# Altium footprint library HTSSOP-32.PcbLib: 1 footprints
Each footprint in its own frame and in the unit in brackets; x right, y up, seen from the top. Pads: shape width x height; smd on the part's side, far side on the other; paste and mask are expansions set on the pad; w line width, h text height; cw(c..) or ccw(c..) is an arc to the next point about the centre after c.
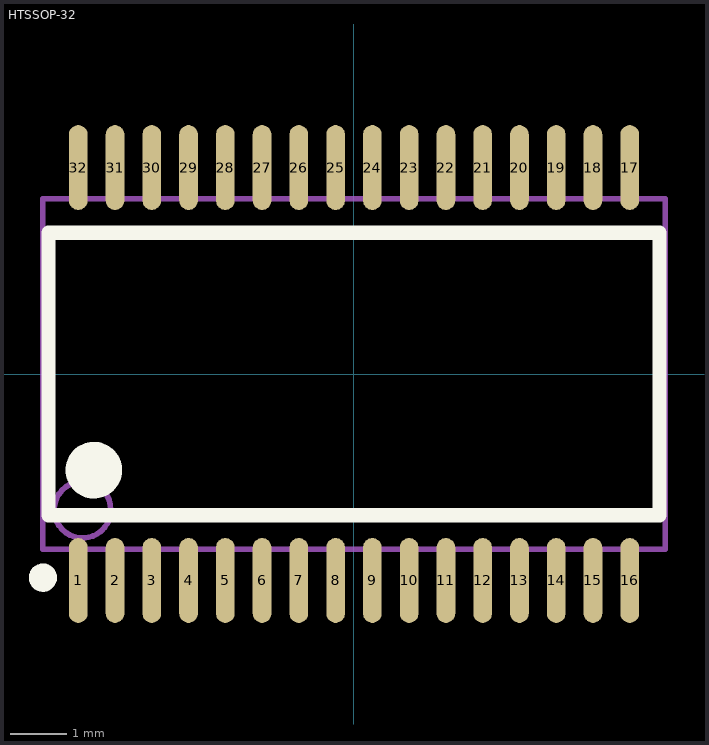
[diagram p0: the footprint, top view; thin cyan lines are the x and y axes]

## HTSSOP-32 [mm]
pads (32):
  oval 0.33x1.5 smd: 1(-4.875,-3.65) 2(-4.225,-3.65) 3(-3.575,-3.65) 4(-2.925,-3.65) 5(-2.275,-3.65) 6(-1.625,-3.65) 7(-0.975,-3.65) 8(-0.325,-3.65) 9(0.325,-3.65) 10(0.975,-3.65) 11(1.625,-3.65) 12(2.275,-3.65) 13(2.925,-3.65) 14(3.575,-3.65) 15(4.225,-3.65) 16(4.875,-3.65) 17(4.875,3.65) 18(4.225,3.65) 19(3.575,3.65) 20(2.925,3.65) 21(2.275,3.65) 22(1.625,3.65) 23(0.975,3.65) 24(0.325,3.65) 25(-0.325,3.65) 26(-0.975,3.65) 27(-1.625,3.65) 28(-2.275,3.65) 29(-2.925,3.65) 30(-3.575,3.65) 31(-4.225,3.65) 32(-4.875,3.65)
Top Overlay:
  circle w0.5: c-4.6,-1.7 r0.25
  circle w0.25: c-5.5,-3.6 r0.125
  lines w0.254: -5.4,-2.5 5.4,-2.5 5.4,2.5 -5.4,2.5 -5.4,-2.5
Mechanical 13:
  circle w0.1: c-4.8,-2.4 r0.5
  lines w0.1: -5.5,-3.1 5.5,-3.1 5.5,3.1 -5.5,3.1 -5.5,-3.1